# EAGLE library part RELAIS_SOO (library pkess_schuetze-relais)
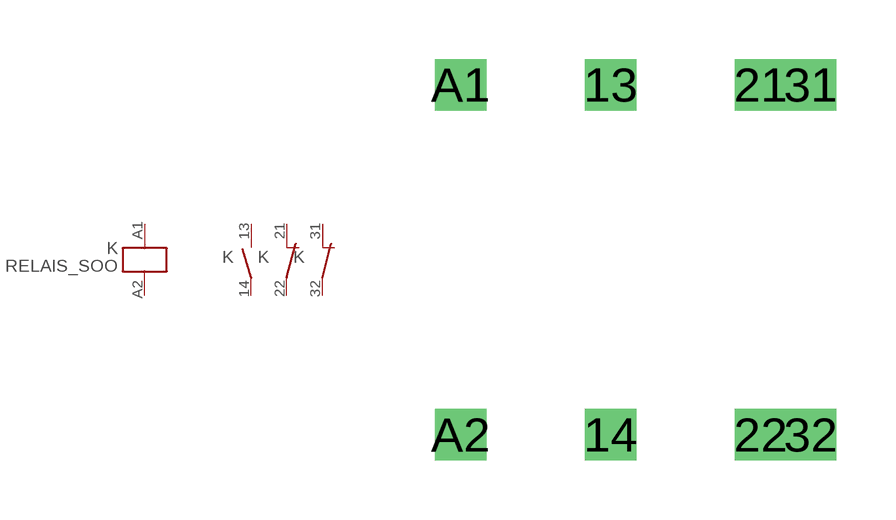
[diagram p6: symbol with the pads of GENERIC_RELAIS_SOO; footprint GENERIC_RELAIS_SOO]

Designator prefix K; gates SPULE=SPULE G$1=KONTAKT_SCHLIESSER G$2=KONTAKT_OEFFNER G$3=KONTAKT_OEFFNER

## RELAIS_SOO  [GENERIC_RELAIS_SOO]
13  G$1:3  pas
14  G$1:4  pas
21  G$2:1  pas
22  G$2:2  pas
31  G$3:1  pas
32  G$3:2  pas
A1  SPULE:A1  in
A2  SPULE:A2  in

## Footprint GENERIC_RELAIS_SOO (pad centres in mm)
drill 0.8 square: 13 -2.54,5.08; 14 -2.54,-3.81; 21 1.27,5.08; 22 1.27,-3.81; 31 2.54,5.08; 32 2.54,-3.81; A1 -6.35,5.08; A2 -6.35,-3.81